# Altium footprint library LGA-16(3.0X3.0)(3-4-3-4).PcbLib: 1 footprints
Each footprint in its own frame and in the unit in brackets; x right, y up, seen from the top. Pads: shape width x height; smd on the part's side, far side on the other; paste and mask are expansions set on the pad; w line width, h text height; cw(c..) or ccw(c..) is an arc to the next point about the centre after c.
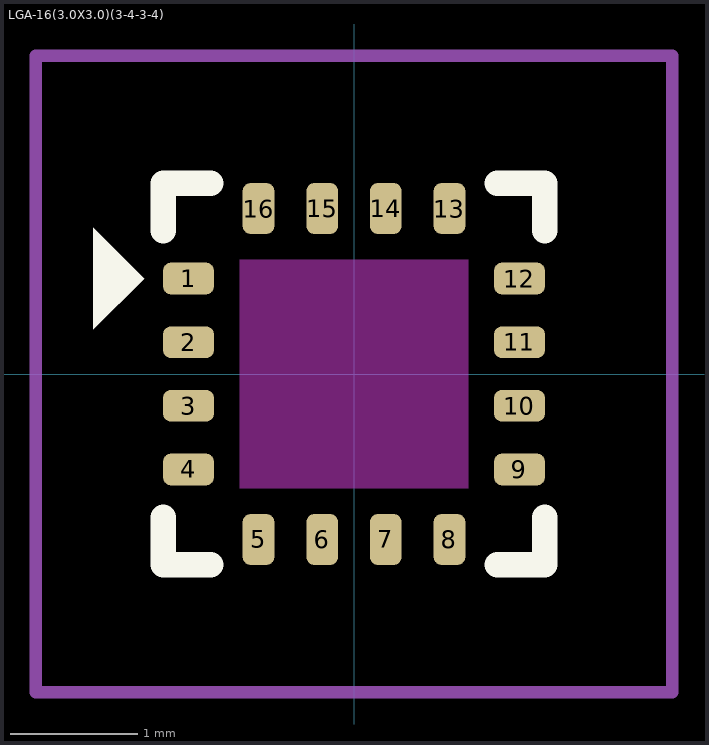
[diagram p0: the footprint, top view; thin cyan lines are the x and y axes]

## LGA-16(3.0X3.0)(3-4-3-4) [mm]
pads (16):
  rrect50% 0.4x0.25 smd: 1(-1.3,0.75) 2(-1.3,0.25) 3(-1.3,-0.25) 4(-1.3,-0.75) 9(1.3,-0.75) 10(1.3,-0.25) 11(1.3,0.25) 12(1.3,0.75)
  rrect50% 0.25x0.4 smd: 5(-0.75,-1.3) 6(-0.25,-1.3) 7(0.25,-1.3) 8(0.75,-1.3) 13(0.75,1.3) 14(0.25,1.3) 15(-0.25,1.3) 16(-0.75,1.3)
Top Layer keep-out:
  rectangle: -0.9,-0.9 0.9,0.9
Top Overlay:
  region: -2.05,0.35 -2.05,1.15 -1.65,0.75
  lines w0.2: -1.5,-1.125 -1.5,-1.5 -1.125,-1.5 ; -1.5,1.125 -1.5,1.5 -1.125,1.5 ; 1.125,-1.5 1.5,-1.5 1.5,-1.125 ; 1.125,1.5 1.5,1.5 1.5,1.125
Top Courtyard:
  lines w0.1: -2.5,-2.5 -2.5,2.5 2.5,2.5 2.5,-2.5 -1.5,-2.5 -2.5,-2.5
3D body: height 1.01, standoff 0.01, extent -1.3,0.7 -0.7,1.3
3D body: height 1, standoff 0, extent -1.5,-1.5 1.5,1.5